# EAGLE library part PTSA_250_16 (library con-phoenix-250)
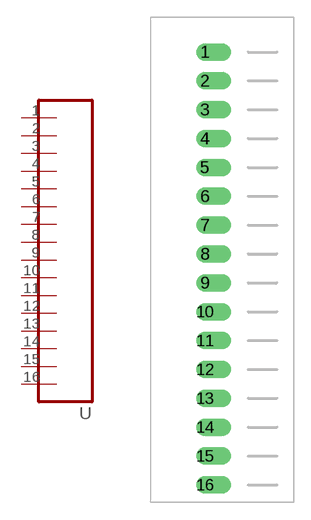
[diagram p0: symbol with the pads of PTSA_250_16_F; footprint PTSA_250_16_F]

Designator prefix -

## PTSA_250_16  [PTSA_250_16_F]
1  1
2  2
3  3
4  4
5  5
6  6
7  7
8  8
9  9
10  10
11  11
12  12
13  13
14  14
15  15
16  16

## Footprint PTSA_250_16_F (pad centres in mm)
drill 1.016 offset: 1 -2.5,20; 2 -2.5,17.5; 3 -2.5,15; 4 -2.5,12.5; 5 -2.5,10; 6 -2.5,7.5; 7 -2.5,5; 8 -2.5,2.5; 9 -2.5,0; 10 -2.5,-2.5; 11 -2.5,-5; 12 -2.5,-7.5; 13 -2.5,-10; 14 -2.5,-12.5; 15 -2.5,-15; 16 -2.5,-17.5